# Altium integrated library TI Interface Darlington Driver.IntLib: 23 symbols
Pins are listed as number, name and electrical type; pins without a type are passive.

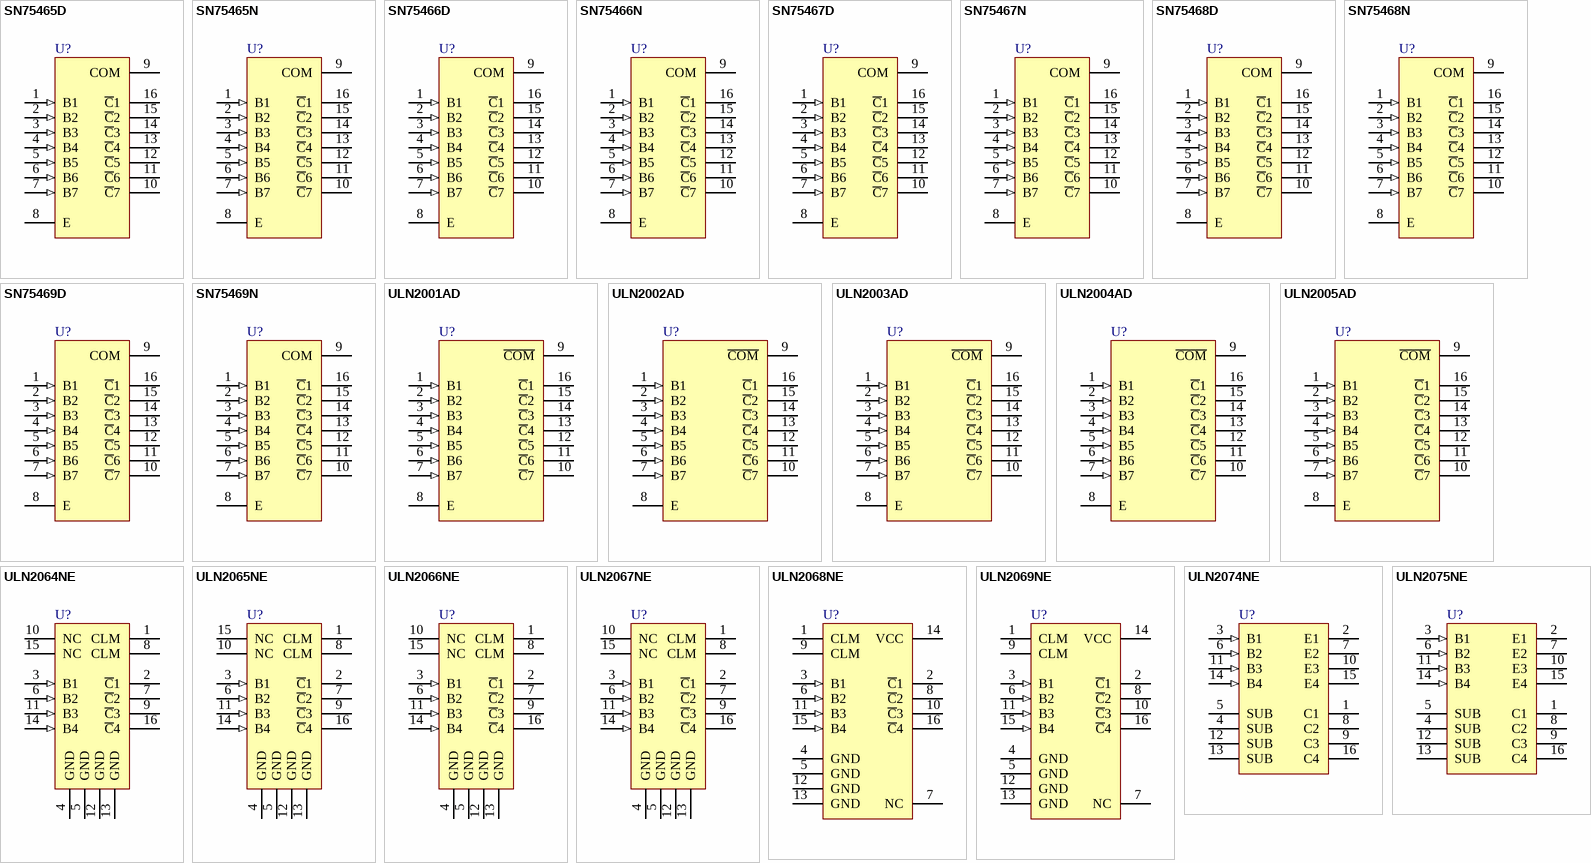
[diagram p0: symbols SN75465D to ULN2075NE]

## SN75465D
designator U?
Darlington Transistor Array; Published: 15-May-2002; LatestRevisionDate: 13-Apr-2006; LatestRevisionNote: IPC-7351 Footprint Added.; DatasheetVersion: Sep-1986; PackageVersion: Jan-1998; PackageReference: D016; Publisher: Altium Limited; PackageDescription: 16-Pin Small Outline Integrated Circuit 1.27 mm Pitch; Code_IPC: SOIC127P600-16; ComponentLink1Description: Manufacturer Link; ComponentLink1URL: http://www.ti.com/
footprint D016_N (SOIC, 16-Leads, Body 9.9x3.9mm, Pitch 1.27mm, IPC Medium Density)
footprint D016_L (SOIC, 16-Leads, Body 9.9x3.9mm, Pitch 1.27mm, IPC High Density)
footprint D016_M (SOIC, 16-Leads, Body 9.9x3.9mm, Pitch 1.27mm, IPC Low Density)
3D model D016 (16-Pin Small Outline Integrated Circuit 1.27 mm Pitch)
pins: 1 B1 (in), 2 B2 (in), 3 B3 (in), 4 B4 (in), 5 B5 (in), 6 B6 (in), 7 B7 (in), 8 E (power), 9 COM, 10 ~{C}7 (oc), 11 ~{C}6 (oc), 12 ~{C}5 (oc), 13 ~{C}4 (oc), 14 ~{C}3 (oc), 15 ~{C}2 (oc), 16 ~{C}1 (oc)

## SN75465N
designator U?
Darlington Transistor Array; Published: 15-May-2002; LatestRevisionDate: 29-May-2009; LatestRevisionNote: Component Body Added.; DatasheetVersion: Sep-1986; PackageVersion: Oct-1995; PackageReference: N016; Publisher: Altium Limited; PackageDescription: DIP, 16-Pin, Row Spacing 7.62 mm, Pitch 2.54 mm; Code_JEDEC: MS-001-BB; ComponentLink1Description: Manufacturer Link; ComponentLink1URL: http://www.ti.com/
footprint N016 (DIP, 16-Leads, Row Spacing 7.62mm, Pitch 2.54mm, Body 19.31x6.35mm)
3D model NE016 (DIP, 16-Pin, Row Spacing 7.62 mm, Pitch 2.54 mm)
pins: 1 B1 (in), 2 B2 (in), 3 B3 (in), 4 B4 (in), 5 B5 (in), 6 B6 (in), 7 B7 (in), 8 E (power), 9 COM, 10 ~{C}7 (oc), 11 ~{C}6 (oc), 12 ~{C}5 (oc), 13 ~{C}4 (oc), 14 ~{C}3 (oc), 15 ~{C}2 (oc), 16 ~{C}1 (oc)

## SN75466D
designator U?
Darlington Transistor Array; Published: 15-May-2002; LatestRevisionDate: 13-Apr-2006; LatestRevisionNote: IPC-7351 Footprint Added.; DatasheetVersion: Sep-1986; PackageVersion: Jan-1998; PackageReference: D016; Publisher: Altium Limited; PackageDescription: 16-Pin Small Outline Integrated Circuit 1.27 mm Pitch; Code_IPC: SOIC127P600-16; ComponentLink1Description: Manufacturer Link; ComponentLink1URL: http://www.ti.com/
footprint D016_N (SOIC, 16-Leads, Body 9.9x3.9mm, Pitch 1.27mm, IPC Medium Density)
footprint D016_L (SOIC, 16-Leads, Body 9.9x3.9mm, Pitch 1.27mm, IPC High Density)
footprint D016_M (SOIC, 16-Leads, Body 9.9x3.9mm, Pitch 1.27mm, IPC Low Density)
3D model D016 (16-Pin Small Outline Integrated Circuit 1.27 mm Pitch)
pins: 1 B1 (in), 2 B2 (in), 3 B3 (in), 4 B4 (in), 5 B5 (in), 6 B6 (in), 7 B7 (in), 8 E (power), 9 COM, 10 ~{C}7 (oc), 11 ~{C}6 (oc), 12 ~{C}5 (oc), 13 ~{C}4 (oc), 14 ~{C}3 (oc), 15 ~{C}2 (oc), 16 ~{C}1 (oc)

## SN75466N
designator U?
Darlington Transistor Array; Published: 15-May-2002; LatestRevisionDate: 29-May-2009; LatestRevisionNote: Component Body Added.; DatasheetVersion: Sep-1986; PackageVersion: Oct-1995; PackageReference: N016; Publisher: Altium Limited; PackageDescription: DIP, 16-Pin, Row Spacing 7.62 mm, Pitch 2.54 mm; Code_JEDEC: MS-001-BB; ComponentLink1Description: Manufacturer Link; ComponentLink1URL: http://www.ti.com/
footprint N016 (DIP, 16-Leads, Row Spacing 7.62mm, Pitch 2.54mm, Body 19.31x6.35mm)
3D model NE016 (DIP, 16-Pin, Row Spacing 7.62 mm, Pitch 2.54 mm)
pins: 1 B1 (in), 2 B2 (in), 3 B3 (in), 4 B4 (in), 5 B5 (in), 6 B6 (in), 7 B7 (in), 8 E (power), 9 COM, 10 ~{C}7 (oc), 11 ~{C}6 (oc), 12 ~{C}5 (oc), 13 ~{C}4 (oc), 14 ~{C}3 (oc), 15 ~{C}2 (oc), 16 ~{C}1 (oc)

## SN75467D
designator U?
Darlington Transistor Array; Published: 15-May-2002; LatestRevisionDate: 13-Apr-2006; LatestRevisionNote: IPC-7351 Footprint Added.; DatasheetVersion: Sep-1986; PackageVersion: Jan-1998; PackageReference: D016; Publisher: Altium Limited; PackageDescription: 16-Pin Small Outline Integrated Circuit 1.27 mm Pitch; Code_IPC: SOIC127P600-16; ComponentLink1Description: Manufacturer Link; ComponentLink1URL: http://www.ti.com/
footprint D016_N (SOIC, 16-Leads, Body 9.9x3.9mm, Pitch 1.27mm, IPC Medium Density)
footprint D016_L (SOIC, 16-Leads, Body 9.9x3.9mm, Pitch 1.27mm, IPC High Density)
footprint D016_M (SOIC, 16-Leads, Body 9.9x3.9mm, Pitch 1.27mm, IPC Low Density)
3D model D016 (16-Pin Small Outline Integrated Circuit 1.27 mm Pitch)
pins: 1 B1 (in), 2 B2 (in), 3 B3 (in), 4 B4 (in), 5 B5 (in), 6 B6 (in), 7 B7 (in), 8 E (power), 9 COM, 10 ~{C}7 (oc), 11 ~{C}6 (oc), 12 ~{C}5 (oc), 13 ~{C}4 (oc), 14 ~{C}3 (oc), 15 ~{C}2 (oc), 16 ~{C}1 (oc)

## SN75467N
designator U?
Darlington Transistor Array; Published: 15-May-2002; LatestRevisionDate: 29-May-2009; LatestRevisionNote: Component Body Added.; DatasheetVersion: Sep-1986; PackageVersion: Oct-1995; PackageReference: N016; Publisher: Altium Limited; PackageDescription: DIP, 16-Pin, Row Spacing 7.62 mm, Pitch 2.54 mm; Code_JEDEC: MS-001-BB; ComponentLink1Description: Manufacturer Link; ComponentLink1URL: http://www.ti.com/
footprint N016 (DIP, 16-Leads, Row Spacing 7.62mm, Pitch 2.54mm, Body 19.31x6.35mm)
3D model NE016 (DIP, 16-Pin, Row Spacing 7.62 mm, Pitch 2.54 mm)
pins: 1 B1 (in), 2 B2 (in), 3 B3 (in), 4 B4 (in), 5 B5 (in), 6 B6 (in), 7 B7 (in), 8 E (power), 9 COM, 10 ~{C}7 (oc), 11 ~{C}6 (oc), 12 ~{C}5 (oc), 13 ~{C}4 (oc), 14 ~{C}3 (oc), 15 ~{C}2 (oc), 16 ~{C}1 (oc)

## SN75468D
designator U?
Darlington Transistor Array; Published: 15-May-2002; LatestRevisionDate: 13-Apr-2006; LatestRevisionNote: IPC-7351 Footprint Added.; DatasheetVersion: Sep-1986; PackageVersion: Jan-1998; PackageReference: D016; Publisher: Altium Limited; PackageDescription: 16-Pin Small Outline Integrated Circuit 1.27 mm Pitch; Code_IPC: SOIC127P600-16; ComponentLink1Description: Manufacturer Link; ComponentLink1URL: http://www.ti.com/; ComponentLink2Description: Datasheet; ComponentLink2URL: http://www-s.ti.com/sc/ds/sn75468.pdf
footprint D016_N (SOIC, 16-Leads, Body 9.9x3.9mm, Pitch 1.27mm, IPC Medium Density)
footprint D016_L (SOIC, 16-Leads, Body 9.9x3.9mm, Pitch 1.27mm, IPC High Density)
footprint D016_M (SOIC, 16-Leads, Body 9.9x3.9mm, Pitch 1.27mm, IPC Low Density)
3D model D016 (16-Pin Small Outline Integrated Circuit 1.27 mm Pitch)
pins: 1 B1 (in), 2 B2 (in), 3 B3 (in), 4 B4 (in), 5 B5 (in), 6 B6 (in), 7 B7 (in), 8 E (power), 9 COM, 10 ~{C}7 (oc), 11 ~{C}6 (oc), 12 ~{C}5 (oc), 13 ~{C}4 (oc), 14 ~{C}3 (oc), 15 ~{C}2 (oc), 16 ~{C}1 (oc)

## SN75468N
designator U?
Darlington Transistor Array; Published: 15-May-2002; LatestRevisionDate: 29-May-2009; LatestRevisionNote: Component Body Added.; DatasheetVersion: Sep-1986; PackageVersion: Oct-1995; PackageReference: N016; Publisher: Altium Limited; PackageDescription: DIP, 16-Pin, Row Spacing 7.62 mm, Pitch 2.54 mm; Code_JEDEC: MS-001-BB; ComponentLink1Description: Manufacturer Link; ComponentLink1URL: http://www.ti.com/; ComponentLink2Description: Datasheet; ComponentLink2URL: http://www-s.ti.com/sc/ds/sn75468.pdf
footprint N016 (DIP, 16-Leads, Row Spacing 7.62mm, Pitch 2.54mm, Body 19.31x6.35mm)
3D model NE016 (DIP, 16-Pin, Row Spacing 7.62 mm, Pitch 2.54 mm)
pins: 1 B1 (in), 2 B2 (in), 3 B3 (in), 4 B4 (in), 5 B5 (in), 6 B6 (in), 7 B7 (in), 8 E (power), 9 COM, 10 ~{C}7 (oc), 11 ~{C}6 (oc), 12 ~{C}5 (oc), 13 ~{C}4 (oc), 14 ~{C}3 (oc), 15 ~{C}2 (oc), 16 ~{C}1 (oc)

## SN75469D
designator U?
Darlington Transistor Array; Published: 15-May-2002; LatestRevisionDate: 13-Apr-2006; LatestRevisionNote: IPC-7351 Footprint Added.; DatasheetVersion: Sep-1986; PackageVersion: Jan-1998; PackageReference: D016; Publisher: Altium Limited; PackageDescription: 16-Pin Small Outline Integrated Circuit 1.27 mm Pitch; Code_IPC: SOIC127P600-16; ComponentLink1Description: Manufacturer Link; ComponentLink1URL: http://www.ti.com/; ComponentLink2Description: Datasheet; ComponentLink2URL: http://www-s.ti.com/sc/ds/sn75468.pdf
footprint D016_N (SOIC, 16-Leads, Body 9.9x3.9mm, Pitch 1.27mm, IPC Medium Density)
footprint D016_L (SOIC, 16-Leads, Body 9.9x3.9mm, Pitch 1.27mm, IPC High Density)
footprint D016_M (SOIC, 16-Leads, Body 9.9x3.9mm, Pitch 1.27mm, IPC Low Density)
3D model D016 (16-Pin Small Outline Integrated Circuit 1.27 mm Pitch)
pins: 1 B1 (in), 2 B2 (in), 3 B3 (in), 4 B4 (in), 5 B5 (in), 6 B6 (in), 7 B7 (in), 8 E (power), 9 COM, 10 ~{C}7 (oc), 11 ~{C}6 (oc), 12 ~{C}5 (oc), 13 ~{C}4 (oc), 14 ~{C}3 (oc), 15 ~{C}2 (oc), 16 ~{C}1 (oc)

## SN75469N
designator U?
Darlington Transistor Array; Published: 15-May-2002; LatestRevisionDate: 29-May-2009; LatestRevisionNote: Component Body Added.; DatasheetVersion: Sep-1986; PackageVersion: Oct-1995; PackageReference: N016; Publisher: Altium Limited; PackageDescription: DIP, 16-Pin, Row Spacing 7.62 mm, Pitch 2.54 mm; Code_JEDEC: MS-001-BB; ComponentLink1Description: Manufacturer Link; ComponentLink1URL: http://www.ti.com/; ComponentLink2Description: Datasheet; ComponentLink2URL: http://www-s.ti.com/sc/ds/sn75468.pdf
footprint N016 (DIP, 16-Leads, Row Spacing 7.62mm, Pitch 2.54mm, Body 19.31x6.35mm)
3D model NE016 (DIP, 16-Pin, Row Spacing 7.62 mm, Pitch 2.54 mm)
pins: 1 B1 (in), 2 B2 (in), 3 B3 (in), 4 B4 (in), 5 B5 (in), 6 B6 (in), 7 B7 (in), 8 E (power), 9 COM, 10 ~{C}7 (oc), 11 ~{C}6 (oc), 12 ~{C}5 (oc), 13 ~{C}4 (oc), 14 ~{C}3 (oc), 15 ~{C}2 (oc), 16 ~{C}1 (oc)

## ULN2001AD
designator U?
Darlington Transistor Array; ComponentAvailability: Obsolete; Published: 15-May-2002; LatestRevisionDate: 13-Apr-2006; LatestRevisionNote: IPC-7351 Footprint Added.; DatasheetVersion: Sep-1986; PackageVersion: Jan-1998; PackageReference: D016; Publisher: Altium Limited; PackageDescription: 16-Pin Small Outline Integrated Circuit 1.27 mm Pitch; Code_IPC: SOIC127P600-16; ComponentLink1Description: Manufacturer Link; ComponentLink1URL: http://www.ti.com/; ComponentLink2Description: Datasheet; ComponentLink2URL: http://www-s.ti.com/sc/ds/uln2002a.pdf
footprint D016_N (SOIC, 16-Leads, Body 9.9x3.9mm, Pitch 1.27mm, IPC Medium Density)
footprint D016_L (SOIC, 16-Leads, Body 9.9x3.9mm, Pitch 1.27mm, IPC High Density)
footprint D016_M (SOIC, 16-Leads, Body 9.9x3.9mm, Pitch 1.27mm, IPC Low Density)
3D model D016 (16-Pin Small Outline Integrated Circuit 1.27 mm Pitch)
pins: 1 B1 (in), 2 B2 (in), 3 B3 (in), 4 B4 (in), 5 B5 (in), 6 B6 (in), 7 B7 (in), 8 E (power), 9 ~{COM}, 10 ~{C}7 (oc), 11 ~{C}6 (oc), 12 ~{C}5 (oc), 13 ~{C}4 (oc), 14 ~{C}3 (oc), 15 ~{C}2 (oc), 16 ~{C}1 (oc)

## ULN2002AD
designator U?
Darlington Transistor Array; ComponentAvailability: Obsolete; Published: 15-May-2002; LatestRevisionDate: 13-Apr-2006; LatestRevisionNote: IPC-7351 Footprint Added.; DatasheetVersion: Sep-1986; PackageVersion: Jan-1998; PackageReference: D016; Publisher: Altium Limited; PackageDescription: 16-Pin Small Outline Integrated Circuit 1.27 mm Pitch; Code_IPC: SOIC127P600-16; ComponentLink1Description: Manufacturer Link; ComponentLink1URL: http://www.ti.com/; ComponentLink2Description: Datasheet; ComponentLink2URL: http://www-s.ti.com/sc/ds/uln2002a.pdf
footprint D016_N (SOIC, 16-Leads, Body 9.9x3.9mm, Pitch 1.27mm, IPC Medium Density)
footprint D016_L (SOIC, 16-Leads, Body 9.9x3.9mm, Pitch 1.27mm, IPC High Density)
footprint D016_M (SOIC, 16-Leads, Body 9.9x3.9mm, Pitch 1.27mm, IPC Low Density)
3D model D016 (16-Pin Small Outline Integrated Circuit 1.27 mm Pitch)
pins: 1 B1 (in), 2 B2 (in), 3 B3 (in), 4 B4 (in), 5 B5 (in), 6 B6 (in), 7 B7 (in), 8 E (power), 9 ~{COM}, 10 ~{C}7 (oc), 11 ~{C}6 (oc), 12 ~{C}5 (oc), 13 ~{C}4 (oc), 14 ~{C}3 (oc), 15 ~{C}2 (oc), 16 ~{C}1 (oc)

## ULN2003AD
designator U?
Darlington Transistor Array; Published: 15-May-2002; LatestRevisionDate: 13-Apr-2006; LatestRevisionNote: IPC-7351 Footprint Added.; DatasheetVersion: Sep-1986; PackageVersion: Jan-1998; PackageReference: D016; Publisher: Altium Limited; PackageDescription: 16-Pin Small Outline Integrated Circuit 1.27 mm Pitch; Code_IPC: SOIC127P600-16; ComponentLink1Description: Manufacturer Link; ComponentLink1URL: http://www.ti.com/; ComponentLink2Description: Datasheet; ComponentLink2URL: http://www-s.ti.com/sc/ds/uln2002a.pdf
footprint D016_N (SOIC, 16-Leads, Body 9.9x3.9mm, Pitch 1.27mm, IPC Medium Density)
footprint D016_L (SOIC, 16-Leads, Body 9.9x3.9mm, Pitch 1.27mm, IPC High Density)
footprint D016_M (SOIC, 16-Leads, Body 9.9x3.9mm, Pitch 1.27mm, IPC Low Density)
3D model D016 (16-Pin Small Outline Integrated Circuit 1.27 mm Pitch)
pins: 1 B1 (in), 2 B2 (in), 3 B3 (in), 4 B4 (in), 5 B5 (in), 6 B6 (in), 7 B7 (in), 8 E (power), 9 ~{COM}, 10 ~{C}7 (oc), 11 ~{C}6 (oc), 12 ~{C}5 (oc), 13 ~{C}4 (oc), 14 ~{C}3 (oc), 15 ~{C}2 (oc), 16 ~{C}1 (oc)

## ULN2004AD
designator U?
Darlington Transistor Array; Published: 15-May-2002; LatestRevisionDate: 13-Apr-2006; LatestRevisionNote: IPC-7351 Footprint Added.; DatasheetVersion: Sep-1986; PackageVersion: Jan-1998; PackageReference: D016; Publisher: Altium Limited; PackageDescription: 16-Pin Small Outline Integrated Circuit 1.27 mm Pitch; Code_IPC: SOIC127P600-16; ComponentLink1Description: Manufacturer Link; ComponentLink1URL: http://www.ti.com/; ComponentLink2Description: Datasheet; ComponentLink2URL: http://www-s.ti.com/sc/ds/uln2004a.pdf
footprint D016_N (SOIC, 16-Leads, Body 9.9x3.9mm, Pitch 1.27mm, IPC Medium Density)
footprint D016_L (SOIC, 16-Leads, Body 9.9x3.9mm, Pitch 1.27mm, IPC High Density)
footprint D016_M (SOIC, 16-Leads, Body 9.9x3.9mm, Pitch 1.27mm, IPC Low Density)
3D model D016 (16-Pin Small Outline Integrated Circuit 1.27 mm Pitch)
pins: 1 B1 (in), 2 B2 (in), 3 B3 (in), 4 B4 (in), 5 B5 (in), 6 B6 (in), 7 B7 (in), 8 E (power), 9 ~{COM}, 10 ~{C}7 (oc), 11 ~{C}6 (oc), 12 ~{C}5 (oc), 13 ~{C}4 (oc), 14 ~{C}3 (oc), 15 ~{C}2 (oc), 16 ~{C}1 (oc)

## ULN2005AD
designator U?
Darlington Transistor Array; Published: 15-May-2002; LatestRevisionDate: 13-Apr-2006; LatestRevisionNote: IPC-7351 Footprint Added.; DatasheetVersion: Sep-1986; PackageVersion: Jan-1998; PackageReference: D016; Publisher: Altium Limited; PackageDescription: 16-Pin Small Outline Integrated Circuit 1.27 mm Pitch; Code_IPC: SOIC127P600-16; ComponentLink1Description: Manufacturer Link; ComponentLink1URL: http://www.ti.com/
footprint D016_N (SOIC, 16-Leads, Body 9.9x3.9mm, Pitch 1.27mm, IPC Medium Density)
footprint D016_L (SOIC, 16-Leads, Body 9.9x3.9mm, Pitch 1.27mm, IPC High Density)
footprint D016_M (SOIC, 16-Leads, Body 9.9x3.9mm, Pitch 1.27mm, IPC Low Density)
3D model D016 (16-Pin Small Outline Integrated Circuit 1.27 mm Pitch)
pins: 1 B1 (in), 2 B2 (in), 3 B3 (in), 4 B4 (in), 5 B5 (in), 6 B6 (in), 7 B7 (in), 8 E (power), 9 ~{COM}, 10 ~{C}7 (oc), 11 ~{C}6 (oc), 12 ~{C}5 (oc), 13 ~{C}4 (oc), 14 ~{C}3 (oc), 15 ~{C}2 (oc), 16 ~{C}1 (oc)

## ULN2064NE
designator U?
Quadruple High-Current Darlington Switch; Note: Pins 4, 5, 12 & 13 are electrically connected.  Heatsink, E and Substrate.; Published: 15-May-2002; LatestRevisionDate: 29-May-2009; LatestRevisionNote: Component Body Added.; DatasheetVersion: Sep-1986; PackageVersion: 1991; PackageReference: NE016; Publisher: Altium Limited; PackageDescription: DIP, 16-Pin, Row Spacing 7.62 mm, Pitch 2.54 mm; Code_JEDEC: MS-001-BB; ComponentLink1Description: Manufacturer Link; ComponentLink1URL: http://www.ti.com/
footprint NE016 (DIP, 16-Leads, Row Spacing 7.62mm, Pitch 2.54mm, Body 19.4x6.35mm)
3D model NE016 (DIP, 16-Pin, Row Spacing 7.62 mm, Pitch 2.54 mm)
pins: 1 CLM, 2 ~{C}1 (oc), 3 B1 (in), 4 GND (power), 5 GND (power), 6 B2 (in), 7 ~{C}2 (oc), 8 CLM, 9 ~{C}3 (oc), 10 NC, 11 B3 (in), 12 GND (power), 13 GND (power), 14 B4 (in), 15 NC, 16 ~{C}4 (oc)

## ULN2065NE
designator U?
Quadruple High-Current Darlington Switch; Note: Pins 4, 5, 12 & 13 are electrically connected.  Heatsink, E and Substrate.; Published: 15-May-2002; LatestRevisionDate: 29-May-2009; LatestRevisionNote: Component Body Added.; DatasheetVersion: Sep-1986; PackageVersion: 1991; PackageReference: NE016; Publisher: Altium Limited; PackageDescription: DIP, 16-Pin, Row Spacing 7.62 mm, Pitch 2.54 mm; Code_JEDEC: MS-001-BB; ComponentLink1Description: Manufacturer Link; ComponentLink1URL: http://www.ti.com/
footprint NE016 (DIP, 16-Leads, Row Spacing 7.62mm, Pitch 2.54mm, Body 19.4x6.35mm)
3D model NE016 (DIP, 16-Pin, Row Spacing 7.62 mm, Pitch 2.54 mm)
pins: 1 CLM, 2 ~{C}1 (oc), 3 B1 (in), 4 GND (power), 5 GND (power), 6 B2 (in), 7 ~{C}2 (oc), 8 CLM, 9 ~{C}3 (oc), 10 NC, 11 B3 (in), 12 GND (power), 13 GND (power), 14 B4 (in), 15 NC, 16 ~{C}4 (oc)

## ULN2066NE
designator U?
Quadruple High-Current Darlington Switch; Note: Pins 4, 5, 12 & 13 are electrically connected.  Heatsink, E and Substrate.; Published: 15-May-2002; LatestRevisionDate: 29-May-2009; LatestRevisionNote: Component Body Added.; DatasheetVersion: Sep-1986; PackageVersion: 1991; PackageReference: NE016; Publisher: Altium Limited; PackageDescription: DIP, 16-Pin, Row Spacing 7.62 mm, Pitch 2.54 mm; Code_JEDEC: MS-001-BB; ComponentLink1Description: Manufacturer Link; ComponentLink1URL: http://www.ti.com/
footprint NE016 (DIP, 16-Leads, Row Spacing 7.62mm, Pitch 2.54mm, Body 19.4x6.35mm)
3D model NE016 (DIP, 16-Pin, Row Spacing 7.62 mm, Pitch 2.54 mm)
pins: 1 CLM, 2 ~{C}1 (oc), 3 B1 (in), 4 GND (power), 5 GND (power), 6 B2 (in), 7 ~{C}2 (oc), 8 CLM, 9 ~{C}3 (oc), 10 NC, 11 B3 (in), 12 GND (power), 13 GND (power), 14 B4 (in), 15 NC, 16 ~{C}4 (oc)

## ULN2067NE
designator U?
Quadruple High-Current Darlington Switch; Note: Pins 4, 5, 12 & 13 are electrically connected.  Heatsink, E and Substrate.; Published: 15-May-2002; LatestRevisionDate: 29-May-2009; LatestRevisionNote: Component Body Added.; DatasheetVersion: Sep-1986; PackageVersion: 1991; PackageReference: NE016; Publisher: Altium Limited; PackageDescription: DIP, 16-Pin, Row Spacing 7.62 mm, Pitch 2.54 mm; Code_JEDEC: MS-001-BB; ComponentLink1Description: Manufacturer Link; ComponentLink1URL: http://www.ti.com/
footprint NE016 (DIP, 16-Leads, Row Spacing 7.62mm, Pitch 2.54mm, Body 19.4x6.35mm)
3D model NE016 (DIP, 16-Pin, Row Spacing 7.62 mm, Pitch 2.54 mm)
pins: 1 CLM, 2 ~{C}1 (oc), 3 B1 (in), 4 GND (power), 5 GND (power), 6 B2 (in), 7 ~{C}2 (oc), 8 CLM, 9 ~{C}3 (oc), 10 NC, 11 B3 (in), 12 GND (power), 13 GND (power), 14 B4 (in), 15 NC, 16 ~{C}4 (oc)

## ULN2068NE
designator U?
Quadruple High-Current Darlington Switch; Note: Pins 4, 5, 12 & 13 are electrically connected.  Heatsink, E and Substrate.; Published: 15-May-2002; LatestRevisionDate: 29-May-2009; LatestRevisionNote: Component Body Added.; DatasheetVersion: Sep-1986; PackageVersion: 1991; PackageReference: NE016; Publisher: Altium Limited; PackageDescription: DIP, 16-Pin, Row Spacing 7.62 mm, Pitch 2.54 mm; Code_JEDEC: MS-001-BB; ComponentLink1Description: Manufacturer Link; ComponentLink1URL: http://www.ti.com/
footprint NE016 (DIP, 16-Leads, Row Spacing 7.62mm, Pitch 2.54mm, Body 19.4x6.35mm)
3D model NE016 (DIP, 16-Pin, Row Spacing 7.62 mm, Pitch 2.54 mm)
pins: 1 CLM, 2 ~{C}1 (oc), 3 B1 (in), 4 GND (power), 5 GND (power), 6 B2 (in), 7 NC, 8 ~{C}2 (oc), 9 CLM, 10 ~{C}3 (oc), 11 B3 (in), 12 GND (power), 13 GND (power), 14 VCC (power), 15 B4 (in), 16 ~{C}4 (oc)

## ULN2069NE
designator U?
Quadruple High-Current Darlington Switch; Note: Pins 4, 5, 12 & 13 are electrically connected.  Heatsink, E and Substrate.; Published: 15-May-2002; LatestRevisionDate: 29-May-2009; LatestRevisionNote: Component Body Added.; DatasheetVersion: Sep-1986; PackageVersion: 1991; PackageReference: NE016; Publisher: Altium Limited; PackageDescription: DIP, 16-Pin, Row Spacing 7.62 mm, Pitch 2.54 mm; Code_JEDEC: MS-001-BB; ComponentLink1Description: Manufacturer Link; ComponentLink1URL: http://www.ti.com/
footprint NE016 (DIP, 16-Leads, Row Spacing 7.62mm, Pitch 2.54mm, Body 19.4x6.35mm)
3D model NE016 (DIP, 16-Pin, Row Spacing 7.62 mm, Pitch 2.54 mm)
pins: 1 CLM, 2 ~{C}1 (oc), 3 B1 (in), 4 GND (power), 5 GND (power), 6 B2 (in), 7 NC, 8 ~{C}2 (oc), 9 CLM, 10 ~{C}3 (oc), 11 B3 (in), 12 GND (power), 13 GND (power), 14 VCC (power), 15 B4 (in), 16 ~{C}4 (oc)

## ULN2074NE
designator U?
Quadruple High-Current Darlington Switch; Note: Pins 4, 5, 12 & 13 are electrically connected.  Heatsink, and Substrate.; Published: 15-May-2002; LatestRevisionDate: 29-May-2009; LatestRevisionNote: Component Body Added.; DatasheetVersion: Sep-1986; PackageVersion: 1991; PackageReference: NE016; Publisher: Altium Limited; PackageDescription: DIP, 16-Pin, Row Spacing 7.62 mm, Pitch 2.54 mm; Code_JEDEC: MS-001-BB; ComponentLink1Description: Manufacturer Link; ComponentLink1URL: http://www.ti.com/
footprint NE016 (DIP, 16-Leads, Row Spacing 7.62mm, Pitch 2.54mm, Body 19.4x6.35mm)
3D model NE016 (DIP, 16-Pin, Row Spacing 7.62 mm, Pitch 2.54 mm)
pins: 1 C1, 2 E1, 3 B1 (in), 4 SUB (power), 5 SUB (power), 6 B2 (in), 7 E2, 8 C2, 9 C3, 10 E3, 11 B3 (in), 12 SUB (power), 13 SUB (power), 14 B4 (in), 15 E4, 16 C4

## ULN2075NE
designator U?
Quadruple High-Current Darlington Switch; Note: Pins 4, 5, 12 & 13 are electrically connected.  Heatsink, and Substrate.; Published: 15-May-2002; LatestRevisionDate: 29-May-2009; LatestRevisionNote: Component Body Added.; DatasheetVersion: Sep-1986; PackageVersion: 1991; PackageReference: NE016; Publisher: Altium Limited; PackageDescription: DIP, 16-Pin, Row Spacing 7.62 mm, Pitch 2.54 mm; Code_JEDEC: MS-001-BB; ComponentLink1Description: Manufacturer Link; ComponentLink1URL: http://www.ti.com/
footprint NE016 (DIP, 16-Leads, Row Spacing 7.62mm, Pitch 2.54mm, Body 19.4x6.35mm)
3D model NE016 (DIP, 16-Pin, Row Spacing 7.62 mm, Pitch 2.54 mm)
pins: 1 C1, 2 E1, 3 B1 (in), 4 SUB (power), 5 SUB (power), 6 B2 (in), 7 E2, 8 C2, 9 C3, 10 E3, 11 B3 (in), 12 SUB (power), 13 SUB (power), 14 B4 (in), 15 E4, 16 C4